# Altium schematic symbol library Resistor.SchLib: 1 symbol
Pins are listed as number, name and electrical type; pins without a type are passive.

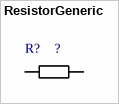
[diagram p0: symbol ResistorGeneric]

## ResistorGeneric
designator R?, comment ?
Name: ?
pins: 1, 2